# Altium schematic symbol library V2.1.2SchLib.SchLib: 37 symbols
Pins are listed as number, name and electrical type; pins without a type are passive.

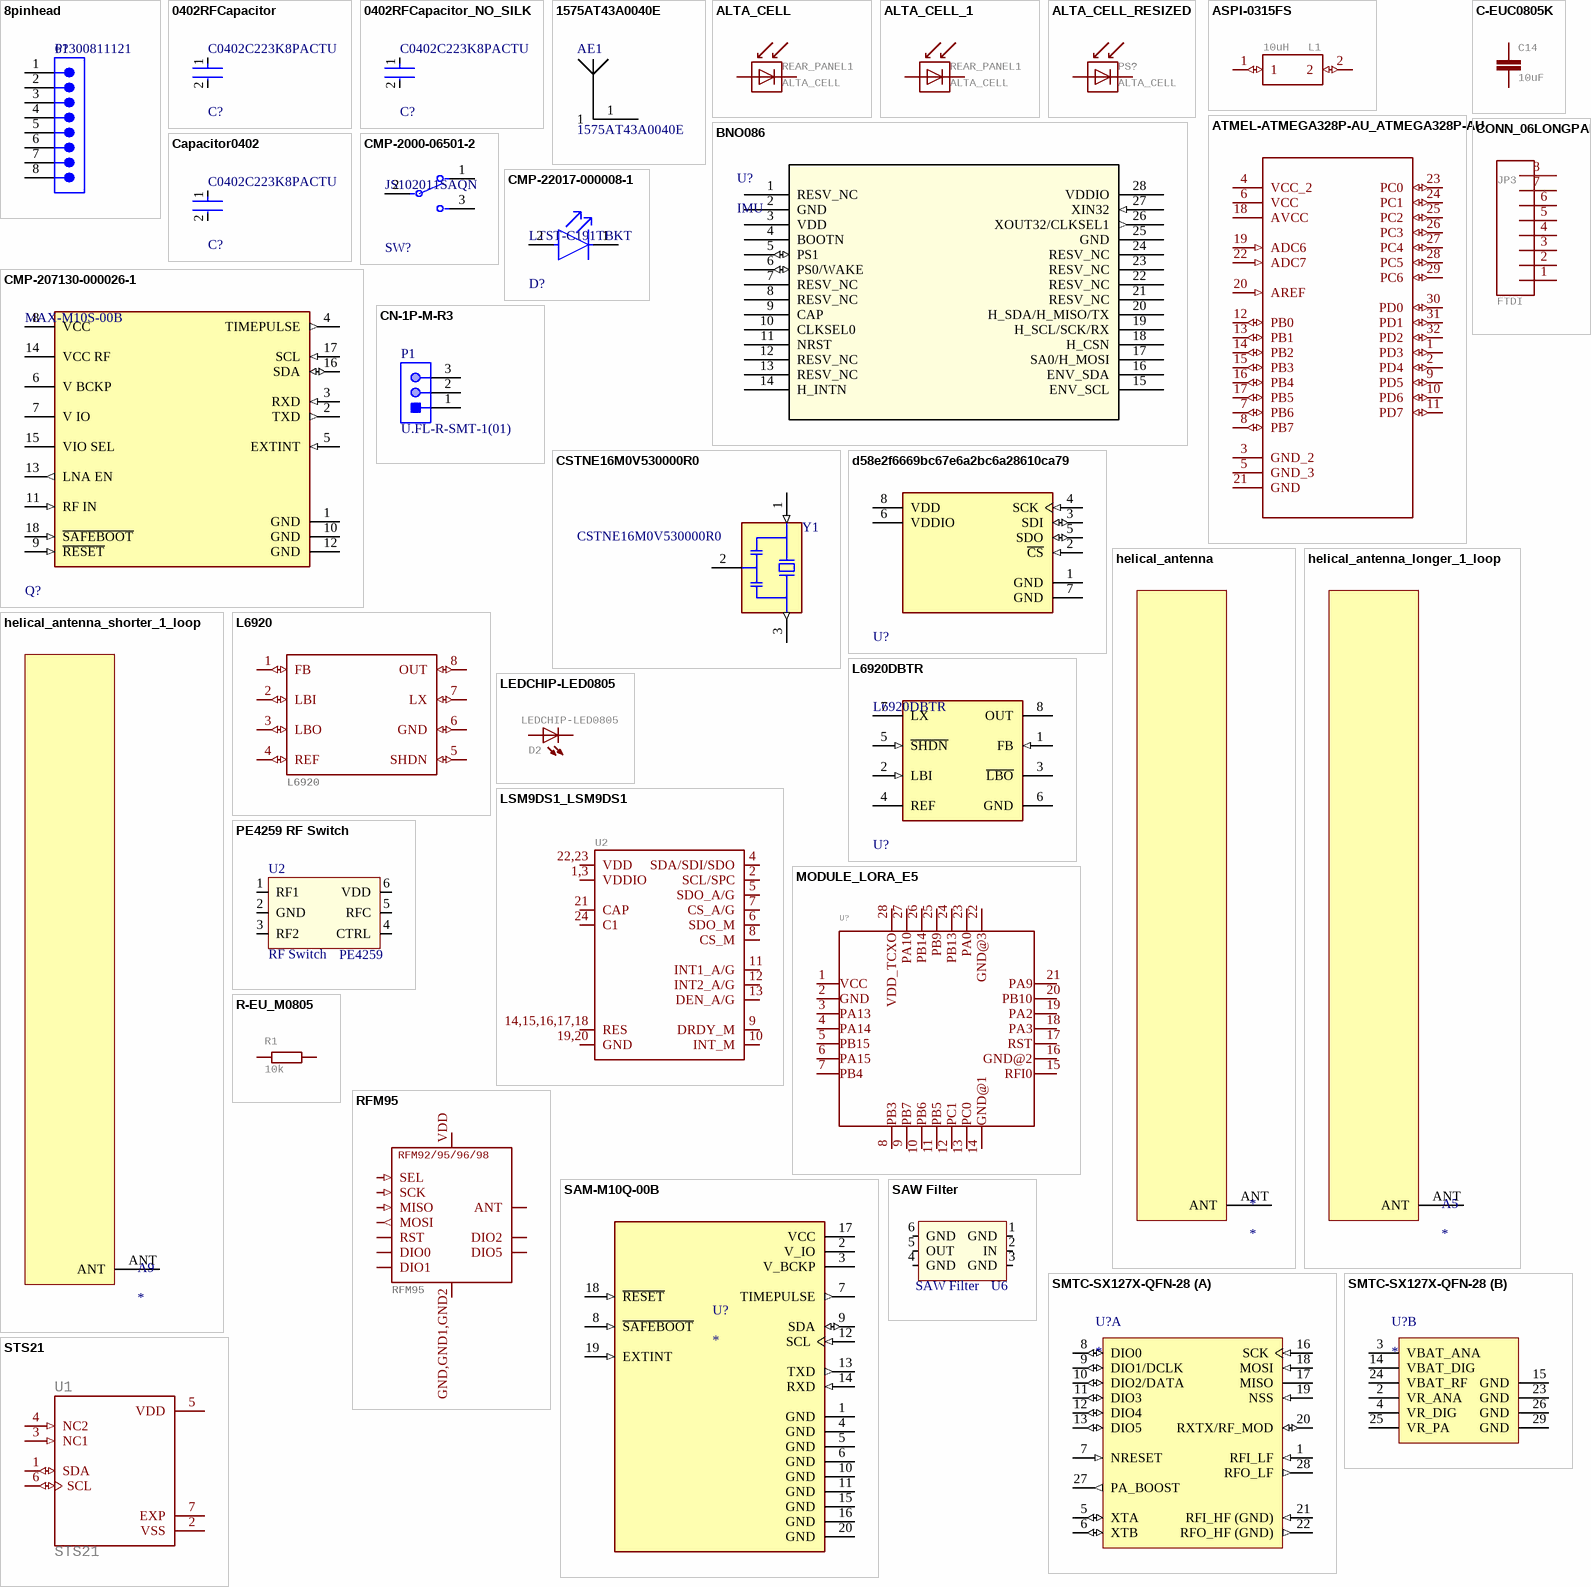
[diagram p0: symbols 8pinhead to STS21]

## 8pinhead
designator P?, comment 61300811121
NexarPartId: 32855533; Connector Type: Male Pin; Number of Contacts: 8; Voltage Rating: 250V; Current Rating: 3A; Contact Resistance: 20mΩ; Pitch: 2.54mm; Gender: Male; Termination: Solder; Contact Material: Copper; Mount: Through Hole; Lead Pitch: 2.54mm; Number of Positions: 8; Operating Supply Voltage: 250V; Number of Pins: 8; Max Operating Temperature: 105°C; Height: 8.54mm; REACH SVHC: Unknown; Number of Rows: 1; Packaging: Bulk; Contact Plating: Gold; Contact Mating Length: 5.9944mm; Orientation: Vertical; RoHS: Compliant; Color: Black; Min Operating Temperature: -40°C
footprint 8pinhead (Pin Header, pitch 2.54 mm, THT, Vertical, single row, 8p)
pins: 1, 2, 3, 4, 5, 6, 7, 8

## 0402RFCapacitor
designator C?, comment C0402C223K8PACTU
CAP CER 0.022UF 10V X5R 0402; Manufacturer: Kemet; Capacitance: 22,000 pF; Value: 22,000 pF; Temperature Coefficient: 15%; Material: Ceramic; Tolerance: 0.1; RoHS: TRUE; Octopart: https://octopart.com/c0402c223k8pactu-kemet-140074; Category: Cap; Manufacturer Part Number: C0402C223K8PACTU; Lead Free: Yes; Automotive: No; Height: 0.55mm; Ipc Land Pattern Name: CAPC10050X50; ComponentLink2URL: https://content.kemet.com/datasheets/KEM_C1002_X7R_SMD.pdf; Device Class L2: Capacitors; Temperature Range Low: -55°C; ComponentLink2Description: Datasheet; Mouser Description: Multilayer Ceramic Capacitors MLCC - SMD/SMT 10volts 22000pF X5R 10%; Voltage Rating: 10 V; Device Class L3: Ceramic Capacitors; Package: C0402-BB; Digikey Description: CAP CER 0.022UF 10V X5R 0402; Temperature Characteristic: X5R; Temperature: -55°C to +125°C; Device Class L1: Passive Components; Temperature Range High: +125°C
footprint CAPC0402(1005)60_L (Chip Capacitor, Body 1.0x0.5mm, Height 0.6mm, IPC High Density)
pins: 1, 2

## 0402RFCapacitor_NO_SILK
designator C?, comment C0402C223K8PACTU
CAP CER 0.022UF 10V X5R 0402; Manufacturer: Kemet; Capacitance: 22,000 pF; Value: 22,000 pF; Temperature Coefficient: 15%; Material: Ceramic; Tolerance: 0.1; RoHS: TRUE; Octopart: https://octopart.com/c0402c223k8pactu-kemet-140074; Category: Cap; Manufacturer Part Number: C0402C223K8PACTU; Lead Free: Yes; Automotive: No; Height: 0.55mm; Ipc Land Pattern Name: CAPC10050X50; ComponentLink2URL: https://content.kemet.com/datasheets/KEM_C1002_X7R_SMD.pdf; Device Class L2: Capacitors; Temperature Range Low: -55°C; ComponentLink2Description: Datasheet; Mouser Description: Multilayer Ceramic Capacitors MLCC - SMD/SMT 10volts 22000pF X5R 10%; Voltage Rating: 10 V; Device Class L3: Ceramic Capacitors; Package: C0402-BB; Digikey Description: CAP CER 0.022UF 10V X5R 0402; Temperature Characteristic: X5R; Temperature: -55°C to +125°C; Device Class L1: Passive Components; Temperature Range High: +125°C
footprint PI_NET_CAPACITOR_0402 (Chip Capacitor, Body 1.0x0.5mm, Height 0.6mm, NO SILK)
pins: 1, 2

## 1575AT43A0040E
designator AE1
No Description Available; Mfr_Name: Johanson Technology; Digi-Key_Part_Number_3: 712-1003-6-ND; Digi-Key_Part_Number_2: 712-1003-1-ND; Digi-Key_Part_Number_1: 712-1003-2-ND
footprint ANT_1575AT_JOT-L
pins: 1, 1

## ALTA_CELL
designator REAR_PANEL1
GateName_1: G$1; SymbolName_1: ALTA_CELL; LibraryName: ALTA_CELL; DeviceSetName: ALTA_CELL
footprint ALTA_CELL_ALTA_CELL
pins: +, -

## ALTA_CELL_1
designator REAR_PANEL1, comment ALTA_CELL
GateName_1: G$1; SymbolName_1: ALTA_CELL; LibraryName: ALTA_CELL; DeviceSetName: ALTA_CELL
pins: +, -

## ALTA_CELL_RESIZED
designator PS?, comment ALTA_CELL
GateName_1: G$1; SymbolName_1: ALTA_CELL; LibraryName: ALTA_CELL; DeviceSetName: ALTA_CELL
footprint ALTA_CELL_SAME_SIZED_FEET (SAME SIZED FEET AND CORRECT POLARITY)
pins: +, -

## ASPI-0315FS
designator L1, comment 10uH
GateName_1: G$1; SymbolName_1: ASPI-0315FS; LibraryName: ASPI-0315FS; DeviceSetName: ASPI-0315FS
footprint 01005 imperial
pins: 1 (io), 2 (io)

## ATMEL-ATMEGA328P-AU_ATMEGA328P-AU
designator U?
MPN: ATMEGA328P-AU; GateName_1: A; SymbolName_1: ATMEL-ATMEGA328P-AU_ATMEGA328P-AU; LibraryName: AmbaSat-1v1-01-NO-solar; DeviceSetName: ATMEL-ATMEGA328P-AU_ATMEGA328P-AU; Package: ATMEL-ATMEGA328P-AU_QFP80P900X900X120-32N; OC_FARNELL: 1715486; OC_NEWARK: 14R4631; PACKAGE: TQFP-32; SUPPLIER: Atmel
footprint ATMEL-ATMEGA328P-AU_QFP80P900X900X120-32N
pins: 1 PD3 (io), 2 PD4 (io), 3 GND_2, 4 VCC_2 (power), 5 GND_3, 6 VCC (power), 7 PB6 (io), 8 PB7 (io), 9 PD5 (io), 10 PD6 (io), 11 PD7 (io), 12 PB0 (io), 13 PB1 (io), 14 PB2 (io), 15 PB3 (io), 16 PB4 (io), 17 PB5 (io), 18 AVCC (power), 19 ADC6 (in), 20 AREF (in), 21 GND, 22 ADC7 (in), 23 PC0 (io), 24 PC1 (io), 25 PC2 (io), 26 PC3 (io), 27 PC4 (io), 28 PC5 (io), 29 PC6 (io), 30 PD0 (io), 31 PD1 (io), 32 PD2 (io)

## BNO086
designator U?, comment IMU
No Description Available; Mfr_Name: CEVA; Type: Motion Sensors; RefDes: RefDes
footprint QFN28_BNO086_CEV
pins: 1 RESV_NC, 2 GND (power), 3 VDD (power), 4 BOOTN, 5 PS1 (io), 6 PS0/WAKE (io), 7 RESV_NC, 8 RESV_NC, 9 CAP, 10 CLKSEL0, 11 NRST, 12 RESV_NC, 13 RESV_NC, 14 H_INTN, 15 ENV_SCL, 16 ENV_SDA, 17 SA0/H_MOSI, 18 H_CSN, 19 H_SCL/SCK/RX, 20 H_SDA/H_MISO/TX, 21 RESV_NC, 22 RESV_NC, 23 RESV_NC, 24 RESV_NC, 25 GND (power), 26 XOUT32/CLKSEL1 (out), 27 XIN32 (in), 28 VDDIO (power)

## C-EUC0805K
designator C14, comment 10uF
CAPACITOR, European symbol; GateName_1: G$1; SymbolName_1: C-EU; DeviceName: C0805K; LibraryName: rcl; DeviceSetName: C-EU
footprint 01005 imperial
pins: 1, 2

## Capacitor0402
designator C?, comment C0402C223K8PACTU
CAP CER 0.022UF 10V X5R 0402; Manufacturer: Kemet; Capacitance: 22,000 pF; Value: 22,000 pF; Temperature Coefficient: 15%; Material: Ceramic; Tolerance: 0.1; RoHS: TRUE; Octopart: https://octopart.com/c0402c223k8pactu-kemet-140074; Category: Cap; Manufacturer Part Number: C0402C223K8PACTU; Lead Free: Yes; Automotive: No; Height: 0.55mm; Ipc Land Pattern Name: CAPC10050X50; ComponentLink2URL: https://content.kemet.com/datasheets/KEM_C1002_X7R_SMD.pdf; Device Class L2: Capacitors; Temperature Range Low: -55°C; ComponentLink2Description: Datasheet; Mouser Description: Multilayer Ceramic Capacitors MLCC - SMD/SMT 10volts 22000pF X5R 10%; Voltage Rating: 10 V; Device Class L3: Ceramic Capacitors; Package: C0402-BB; Digikey Description: CAP CER 0.022UF 10V X5R 0402; Temperature Characteristic: X5R; Temperature: -55°C to +125°C; Device Class L1: Passive Components; Temperature Range High: +125°C
footprint 0402
pins: 1, 2

## CMP-2000-06501-2
designator SW?, comment JS102011SAQN
SWITCH SLIDE SPDT 300MA 6V; Switch Function: On-On; Illumination Type: Non-Illuminated; Switch Travel: 2mm; Contact Resistance: 70mR; Actuator Material: Nylon; Electrical Life: 5000Cycles; Actuator Type: Standard; Max Operating Temperature: 85°C; Housing Material: Nylon; Radiation Hardening: No; Max Voltage Rating (DC): 6V; Package Quantity: 1; Case/Package: 100; Actuator Length: 2mm; Min Operating Temperature: -40°C; Contact Current Rating: 300mA; REACH SVHC: No SVHC; Throw Configuration: SPDT; Packaging: Tape and Reel; Contact Material: Copper Alloy; Max Current Rating: 300mA; Current Rating: 300mA; Mount: Surface Mount; Lead Free: Lead Free; Termination: Gull Wing; Voltage Rating (DC): 6V; Length: 9mm; Orientation: Right Angle; Contact Plating: Silver
footprint FP-JS102011SAQN-MFG
pins: 1, 2 C, 3

## CMP-22017-000008-1
designator D?, comment LTST-C191TBKT
LED BLUE CLEAR CHIP SMD; Lens Color: Colorless; Dominant Wavelength: 475nm; Forward Current: 20mA; Wavelength: 468nm; Viewing Angle: 130°; Power Dissipation: 76mW; Luminous Intensity: 180mcd; Reverse Voltage: 5V; Number of Elements: 1; Lens Style: Diffused; Forward Voltage: 3.8V; Max Power Dissipation: 75mW; Case Code (Metric): 1608; Packaging: Tape and Reel; Case/Package: 0603; Depth: 1.6mm; Mount: Surface Mount; Lead Free: Lead Free; Min Operating Temperature: -20°C; Lens Transparency: Clear; Illumination Color: Blue; Height: 0.55mm; Test Current: 20mA; Case Code (Imperial): 0603; Max Operating Temperature: 80°C; Number of Pins: 2; Length: 0.8mm; Radiation Hardening: No; Package Quantity: 1; Number of LEDs: 1; Width: 0.8mm; Color: Blue
footprint FP-LTST-C191TBKT-MFG
pins: 1 C, 2 A

## CMP-207130-000026-1
designator Q?, comment MAX-M10S-00B
GNSS LCC RX, ROM, TCXO, LNA, SAW
footprint FP-MAX-M10S-00B-MFG - duplicate
pins: 1 GND (power), 2 TXD (out), 3 RXD (in), 4 TIMEPULSE (out), 5 EXTINT (in), 6 V BCKP (power), 7 V IO (power), 8 VCC (power), 9 ~{RESET} (in), 10 GND (power), 11 RF IN (in), 12 GND (power), 13 LNA EN (out), 14 VCC RF (power), 15 VIO SEL (power), 16 SDA (io), 17 SCL (in), 18 ~{SAFEBOOT} (in)

## CN-1P-M-R3
designator P1, comment U.FL-R-SMT-1(01)
Ultra Small Coaxial Connector, 6 GHz, -40 to 90 degC, 3-Pin SMD, RoHS, Bulk; Manufacturer: Hirose Electric; Connector Style: U.FL; Impedance: 50Ohm; Dielectric Material: LiquidCrystalPolymer(LCP); Minimum Quantity: UltraMiniatureCoaxial; Online Catalog: U.FLSeries; Featured Product: HiroseU.FLSeries; Frequency - Max: 6GHz; Other Names: H122041 / U.FL-R-SMT-1(01)-ND; Contact Termination: Solder; Body Material: PhosphorBronze; Connector Type: Jack,MalePin; Body Finish: Silver; Center Contact Plating: Gold; Manufacturer URL: https://www.hirose.com; Family: CoaxialConnectors(RF); Fastening Type: Snap-On; Unit PriceUSD: U.FL; Series: U.FL; Package Reference: U.FL-R-SMT; Packaging: Bulk; Standard Package: 100; Mounting Type: SurfaceMount; Quantity Available: Bulk; Housing Color: Silver; Package Description: 3-Pin Surface Mount Device, Body 2.6 x 2.6 mm; Category: Connectors,Interconnects; Operating Temperature: -40degC~90degC; Center Contact Material: PhosphorBronze; Dynamic Catalog: U.FLSeries; Datasheet URL: https://datasheet.ciiva.com/26945/getdatasheetpartid-475239-26945414.pdf; Datasheet Version: Feb-09; Shield Termination: Solder
footprint HRS-U.FL-R-SMT-3_V (SMT, 3-Leads, Body 2.6x2.6mm)
pins: 1, 2, 3

## CONN_06LONGPADS
designator JP3, comment FTDI
Multi connection point. Often used as Generic Header-pin footprint for 0.1 inch spaced/style header connections    On any of the 0.1 inch spaced packages, you can populate with these:  Break Away Headers - Straight (PRT-00116)   Break Away Male Headers - Right Angle (PRT-00553)   Female Headers (PRT-00115)   Break Away Headers - Machine Pin (PRT-00117)   Break Away Female Headers - Swiss Machine Pin (PRT-00743)   Arduino Stackable Header - 6 Pin (PRT-09280)        For SCREWTERMINALS and SPRING TERMINALS visit here:  Screw Terimnals on SparkFun.com (5mm/3.5mm/2.54mm spacing)       This device is also useful as a general connection point to wire up your design to another part of your project. Our various solder wires solder well into these plated through hole pads.  Hook-Up Wire - Assortment (Stranded, 22 AWG) (PRT-11375)   Hook-Up Wire - Assortment (Solid Core, 22 AWG) (PRT-11367)   View the entire wire category on our website here; GateName_1: G$1; SymbolName_1: CONN_06; DeviceName: LONGPADS; LibraryName: SparkFun-Connectors; DeviceSetName: CONN_06
footprint 1X08_OVAL
pins: 1, 2, 3, 4, 5, 6, 7, 8

## CSTNE16M0V530000R0
designator Y1
16MHz Ceramic Resonator Built in Capacitor 15pF Â±0.15% 40 Ohms -40Â°C ~ 125Â°C Surface Mount; MF: {'manufacturer': u'Murata Electronics'}; Value: *; Availability: Unavailable; MP: CSTNE16M0V530000R0; Price: None; Package: None
footprint OSC_CSTNE16M0V530000R0
pins: 1 IN (in), 2 GND (power), 3 OUT (out)

## d58e2f6669bc67e6a2bc6a28610ca79
designator U?  (value not drawn)
Temp and huminity sensor
footprint FP-BME280-MFG
pins: 1 GND (power), 2 ~{CS} (in), 3 SDI (io), 4 SCK (in), 5 SDO (io), 6 VDDIO (power), 7 GND (power), 8 VDD (power)

## helical_antenna
designator *
helical_antenna schematic for the DeSCENT v1 ChipSat
footprint PCBComponent_1
pins: ANT

## helical_antenna_longer_1_loop
designator A5
helical_antenna schematic for the DeSCENT v1 ChipSat
footprint LoRa_ANT_915_longer_1_loop
pins: ANT

## helical_antenna_shorter_1_loop
designator A9
helical_antenna schematic for the DeSCENT v1 ChipSat
footprint LoRa_ANT_915_shorter_1_loop
pins: ANT

## L6920
designator U3
Voltage stepper upper L6920DTR model; GateName_1: G$1; SymbolName_1: L6920; LibraryName: L6920; DeviceSetName: L6920
footprint L6920_L6920
pins: 1 FB (io), 2 LBI (io), 3 LBO (io), 4 REF (io), 5 SHDN (io), 6 GND (io), 7 LX (io), 8 OUT (io)

## L6920DBTR
designator U?
IC REG BOOST ADJ/FIX 800MA 8MSOP / NON-OBS; Manufacturer: STMicroelectronics; Switching Frequency: 1MHz; Output Type: AdjustableProgrammable; Standoff Height: 0.05mm; Min Supply Voltage: 0.8V; Number Of Outputs: 1; Output Voltage: 1.8-5.2V; Max Junction Temp: +150°C; Max Supply Voltage: 5.5V; Ciiva Ids: 1483122; Nominal Supply Current: 9-11uA; Import Ts: 1521869038; Digikey Description: IC REG BOOST ADJ/FIX 800MA 8MSOP; Device Class L1: Integrated Circuits (ICs); ComponentLink2URL: https://www.st.com/content/ccc/resource/technical/document/datasheet/38/68/3c/50/c4/07/4b/83/CD00055960.pdf/files/CD00055960.pdf/jcr:content/translations/en.CD00055960.pdf; Mouser Description: Switching Voltage Regulators SYNCRONOUS RECT. STEP UP CONVERTER; Manufacturer Part Number: L6920DBTR; Automotive: No; Release Date: 1327448952; Lead Free: Yes; RoHS: TRUE; Temperature Range High: +150°C; ComponentLink2Description: Datasheet; Height: 1.1mm; Octopart: https://octopart.com/l6920dbtr-stmicroelectronics-440113; Category: IC; Switching Topology: Boost; Output Current: 800mA; Package: MSOP8; Temperature: to +150°C; Ipc Land Pattern Name: SOIC65P490X130-8; Device Class L2: Power Management ICs; Device Class L3: Voltage Regulators - Switching
footprint L6920DBTR
pins: 1 FB (in), 2 LBI (in), 3 ~{LBO} (oc), 4 REF (power), 5 ~{SHDN} (in), 6 GND (power), 7 LX, 8 OUT (power)

## LEDCHIP-LED0805
designator D2
LED   OSRAM: - CHIPLED LG R971, LG N971, LY N971, LG Q971, LY Q971, LO R971, LY R971 LH N974, LH R974 LS Q976, LO Q976, LY Q976 LO Q996 - Hyper CHIPLED LW Q18S LB Q993, LB Q99A, LB R99A - SideLED LS A670, LO A670, LY A670, LG A670, LP A670 LB A673, LV A673, LT A673, LW A673 LH A674 LY A675 LS A676, LA A676, LO A676, LY A676, LW A676 LS A679, LY A679, LG A679 -  Hyper Micro SIDELEDÂ® LS Y876, LA Y876, LO Y876, LY Y876 LT Y87S - SmartLED LW L88C, LW L88S LB L89C, LB L89S, LG L890 LS L89K, LO L89K, LY L89K LS L896, LA L896, LO L896, LY L896 - TOPLED LS T670, LO T670, LY T670, LG T670, LP T670 LSG T670, LSP T670, LSY T670, LOP T670, LYG T670 LG T671, LOG T671, LSG T671 LB T673, LV T673, LT T673, LW T673 LH T674 LS T676, LA T676, LO T676, LY T676, LB T676, LH T676, LSB T676, LW T676 LB T67C, LV T67C, LT T67C, LS T67K, LO T67K, LY T67K, LW E67C LS E67B, LA E67B, LO E67B, LY E67B, LB E67C, LV E67C, LT E67C LW T67C LS T679, LY T679, LG T679 LS T770, LO T770, LY T770, LG T770, LP T770 LB T773, LV T773, LT T773, LW T773 LH T774 LS E675, LA E675, LY E675, LS T675 LS T776, LA T776, LO T776, LY T776, LB T776 LHGB T686 LT T68C, LB T68C - Hyper Mini TOPLEDÂ® LB M676 - Mini TOPLED SantanaÂ® LG M470 LS M47K, LO M47K, LY M47K    Source: http://www.osram.convergy.de   LUXEON: - LUMILEDÂ® LXK2-PW12-R00, LXK2-PW12-S00, LXK2-PW14-U00, LXK2-PW14-V00 LXK2-PM12-R00, LXK2-PM12-S00, LXK2-PM14-U00 LXK2-PE12-Q00, LXK2-PE12-R00, LXK2-PE12-S00, LXK2-PE14-T00, LXK2-PE14-U00 LXK2-PB12-K00, LXK2-PB12-L00, LXK2-PB12-M00, LXK2-PB14-N00, LXK2-PB14-P00, LXK2-PB14-Q00 LXK2-PR12-L00, LXK2-PR12-M00, LXK2-PR14-Q00, LXK2-PR14-R00 LXK2-PD12-Q00, LXK2-PD12-R00, LXK2-PD12-S00 LXK2-PH12-R00, LXK2-PH12-S00 LXK2-PL12-P00, LXK2-PL12-Q00, LXK2-PL12-R00    Source: www.luxeon.com   KINGBRIGHT:   KA-3528ASYC Source: www.kingbright.com; GateName_1: G$1; SymbolName_1: LED; DeviceName: CHIP-LED0805; LibraryName: led; DeviceSetName: LED
footprint 0201
pins: 1 A, 2 C

## LSM9DS1_LSM9DS1
designator U2, comment IMU  (value not drawn)
LSM9DS1 3D accelerometer, gyroscope & magnetometer    The LSM9DS1 is a system-in-package featuring a 3D digital linear acceleration sensor, a 3D digital angular rate sensor, and a 3D digital magnetic sensor.   The LSM9DS1 has a linear acceleration full scale of Â±2g/Â±4g/Â±8/Â±16 g, a magnetic field full scale of Â±4/Â±8/Â±12/Â±16 gauss and an angular rate of Â±245/Â±500/Â±2000 dps.   The LSM9DS1 includes an I2 C serial bus interface supporting standard and fast mode (100 kHz and 400 kHz) and an SPI serial standard interface.   Magnetic, accelerometer and gyroscope sensing can be enabled or set in power-down mode separately for smart power management.   The LSM9DS1 is available in a plastic land grid array package (LGA) and it is guaranteed to operate over an extended temperature range from -40 Â°C to +85 Â°C.; GateName_1: G$1; SymbolName_1: LSM9DS1_LSM9DS1; PROD_ID: IC-12536; LibraryName: AmbaSat-1v1-01-NO-solar; DeviceSetName: LSM9DS1_LSM9DS1; Package: LSM9DS1_LGA24-8X4
footprint LSM9DS1_LGA24-8X4
pins: 1,3 VDDIO (io), 2 SCL/SPC (io), 4 SDA/SDI/SDO (io), 5 SDO_A/G (io), 6 SDO_M (io), 7 CS_A/G (io), 8 CS_M (io), 9 DRDY_M (io), 10 INT_M (io), 11 INT1_A/G (io), 12 INT2_A/G (io), 13 DEN_A/G (io), 14,15,16,17,18 RES (io), 19,20 GND (io), 21 CAP (io), 22,23 VDD (io), 24 C1 (io)

## MODULE_LORA_E5
designator U?
GateName_1: G$1; SymbolName_1: MOUDLE_LORA_E5; DeviceSetName: MODULE_LORA_E5; LibraryName: LORA-E5_Eagle_Library; Package: MODULE28P-1.25-12X12X2.5MM
footprint MODULE28P-1.25-12X12X2.5MM
pins: 1 VCC (io), 2 GND (io), 3 PA13 (io), 4 PA14 (io), 5 PB15 (io), 6 PA15 (io), 7 PB4 (io), 8 PB3 (io), 9 PB7 (io), 10 PB6 (io), 11 PB5 (io), 12 PC1 (io), 13 PC0 (io), 14 GND@1 (io), 15 RFI0 (io), 16 GND@2 (io), 17 RST (io), 18 PA3 (io), 19 PA2 (io), 20 PB10 (io), 21 PA9 (io), 22 GND@3 (io), 23 PA0 (io), 24 PB13 (io), 25 PB9 (io), 26 PB14 (io), 27 PA10 (io), 28 VDD_TCXO (io)

## PE4259 RF Switch
designator U2, comment RF Switch  value PE4259
PE4259 Peregrine RF Switch; LatestRevisionDate: 03-Sep-2012 -  Semtech
footprint SC70-6 (SC70 6-Leads, Body 2.0x1.25mm, Pitch 0.65mm)
pins: 1 RF1, 2 GND, 3 RF2, 4 CTRL, 5 RFC, 6 VDD

## R-EU_M0805
designator R1, comment 10k
RESISTOR, European symbol; GateName_1: G$1; SymbolName_1: R-EU; DeviceName: M0805; DeviceSetName: R-EU_; LibraryName: rcl
footprint 01005 imperial
pins: 1, 2

## RFM95
designator U5
LoRa chip; GateName_1: G$1; SymbolName_1: RFM95; LibraryName: _c2h; DeviceSetName: RFM95; RFM92/95/96/98: RFM92/95/96/98
footprint _C2H_RFM95; pin to pad GND,GND1,GND2>GND+GND1+GND2
pins: ANT, DIO0 (oc), DIO1 (oc), DIO2 (oc), DIO5 (oc), GND,GND1,GND2 GND (power), MISO (in), MOSI (out), NSS SEL (in), RST (oc), SCK (in), VDD VCC (power)

## SAM-M10Q-00B
designator U?
- RF Receiver Galileo, GLONASS, GPS 1.575GHz, 1.602GHz -165dBm 400kbps On-Board, Patch Module; MP: SAM-M10Q-00B; MF: u-blox; SnapEDA_Link: https://www.snapeda.com/parts/SAM-M10Q-00B/u-blox/view-part/?ref=snap; Purchase-URL: https://pricing.snapeda.com/search/part/SAM-M10Q-00B/?ref=eda; Check_prices: https://www.snapeda.com/parts/SAM-M10Q-00B/u-blox/view-part/?ref=eda; Availability: In Stock; Package: None; Price: None; Value: *
footprint XCVR_SAM-M10Q-00B
pins: 1 GND (power), 2 V_IO (power), 3 V_BCKP (power), 4 GND (power), 5 GND (power), 6 GND (power), 7 TIMEPULSE (out), 8 ~{SAFEBOOT} (in), 9 SDA (io), 10 GND (power), 11 GND (power), 12 SCL (in), 13 TXD (out), 14 RXD (in), 15 GND (power), 16 GND (power), 17 VCC (power), 18 ~{RESET} (in), 19 EXTINT (in), 20 GND (power)

## SAW Filter
designator U6
SAW Filter - Bandpass - TEMEX type; LatestRevisionDate: 05-oct-2007  -  Semtech
footprint sc44_3.8x3.8mm (sc44 footprint, 3.8x3.8mm)
footprint DCC6C_3.0x3.0mm (DCC6C footprint, 3.0x3.0mm)
pins: 1 GND, 2 IN, 3 GND, 4 GND, 5 OUT, 6 GND

## SMTC-SX127X-QFN-28
designator U?
part A pins: 1 RFI_LF (in) "RF input for bands 2&3", 5 XTA (io) "XTAL connection or TCXO input", 6 XTB (io) "XTAL connection", 7 NRESET (in) "Reset trigger input", 8 DIO0 (io) "Digital I/O, software configured", 9 DIO1/DCLK (io) "Digital I/O, software configured", 10 DIO2/DATA (io) "Digital I/O, software configured", 11 DIO3 (io) "Digital I/O, software configured", 12 DIO4 (io) "Digital I/O, software configured", 13 DIO5 (io) "Digital I/O, software configured", 16 SCK (in) "SPI Clock input", 17 MISO (hiz) "SPI Data output", 18 MOSI (in) "SPI Data input", 19 NSS (in) "SPI Chip select input", 20 RXTX/RF_MOD (io) "Rx/Tx switch control: high in Tx", 21 RFI_HF (GND) (in) "RF input for band 1 (Ground)", 22 RFO_HF (GND) (out) "RF output for band 1 (Ground)", 27 PA_BOOST (out) "Optional high-power PA output, all frequency bands", 28 RFO_LF (out) "RF output for bands 2&3"
part B pins: 2 VR_ANA (power) "Regulated supply voltage for analogue circuitry", 3 VBAT_ANA (power) "Supply voltage for analogue circuitry", 4 VR_DIG (power) "Regulated supply voltage for digital blocks", 14 VBAT_DIG (power) "Supply voltage for digital blocks", 15 GND (power) "Ground", 23 GND (power) "Ground", 24 VBAT_RF (power) "Supply voltage for RF blocks", 25 VR_PA (power) "Regulated supply for the PA", 26 GND (power) "Ground", 29 GND (power) "Exposed ground pad"

## STS21
designator U1
Temperature Sensor Digital, Local -40Â°C ~ 125Â°C 14 b 6-DFN (3x3)SENSOR DIGITAL -40C-125C 6DFN; GateName_1: G$1; SymbolName_1: STS21; LibraryName: STS21; DeviceSetName: STS21; DIGIKEY-PN: 1649-1016-1-ND
footprint XDCR_SGP30-2.5K
pins: 1 SDA (io), 2 VSS, 3 NC1 (in), 4 NC2 (in), 5 VDD (power), 6 SCL (io), 7 EXP

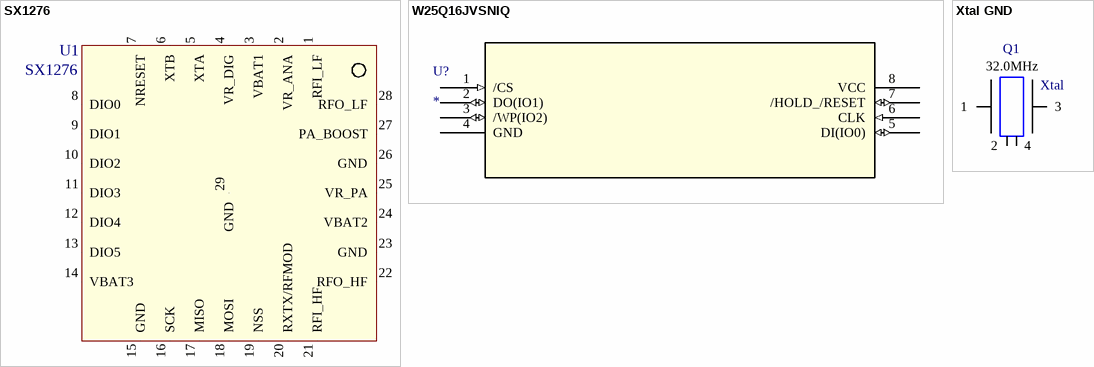
[diagram p1: symbols SX1276 to Xtal GND]

## SX1276
designator U1
SX1276 - Low Power Integrated UHF Transceiver with loRa Modem; LatestRevisionDate: 27-Jul-2009 -  Semtech
footprint vqfn28_6x6mm (28 Leads, Body 6.0x6.0mm, Pitch 0.65mm, VQFN28)
pins: 1 RFI_LF, 2 VR_ANA, 3 VBAT1, 4 VR_DIG, 5 XTA, 6 XTB, 7 NRESET, 8 DIO0, 9 DIO1, 10 DIO2, 11 DIO3, 12 DIO4, 13 DIO5, 14 VBAT3, 15 GND, 16 SCK, 17 MISO, 18 MOSI, 19 NSS, 20 RXTX/RFMOD, 21 RFI_HF, 22 RFO_HF, 23 GND, 24 VBAT2, 25 VR_PA, 26 GND, 27 PA_BOOST, 28 RFO_LF, 29 GND

## W25Q16JVSNIQ
designator U?
No Description Available; Mfr_Name: Winbond; RefDes: RefDes; Type: Type
footprint SOIC_150MIL_WIN
pins: 1 /CS (in), 2 DO(IO1) (io), 3 /WP(IO2) (io), 4 GND (power), 5 DI(IO0) (io), 6 CLK (in), 7 /HOLD_/RESET (io), 8 VCC (power)

## Xtal GND
designator Q1, comment Xtal  value 32.0MHz
Crystal with GND pins; LatestRevisionDate: 05-oct-2007  -  Semtech
footprint nd2520da (Crystal SMD 2.5x2.0mm)
footprint nd2016da (Crystal SMD 2.0x1.6mm)
footprint nd3225da (Crystal SMD 3.2x2.5mm)
footprint nd5032da (Crystal SMD 5.0x3.2mm)
footprint nd6035da (Crystal SMD 6.0x3.5mm)
footprint nd7050da - enlarge (Crystal SMD 7.0x5.0mm - Enlarge Pads to be compatible with 3.2x2.5mm footprint)
footprint nd3225da - nd2520da (Crystal SMD 3.2x2.5mm compatible with 2.5x2.0mm)
pins: 1, 2, 3, 4